# Altium footprint library EC20A1820407.PcbLib: 1 footprints
Each footprint in its own frame and in the unit in brackets; x right, y up, seen from the top. Pads: shape width x height; smd on the part's side, far side on the other; paste and mask are expansions set on the pad; w line width, h text height; cw(c..) or ccw(c..) is an arc to the next point about the centre after c.
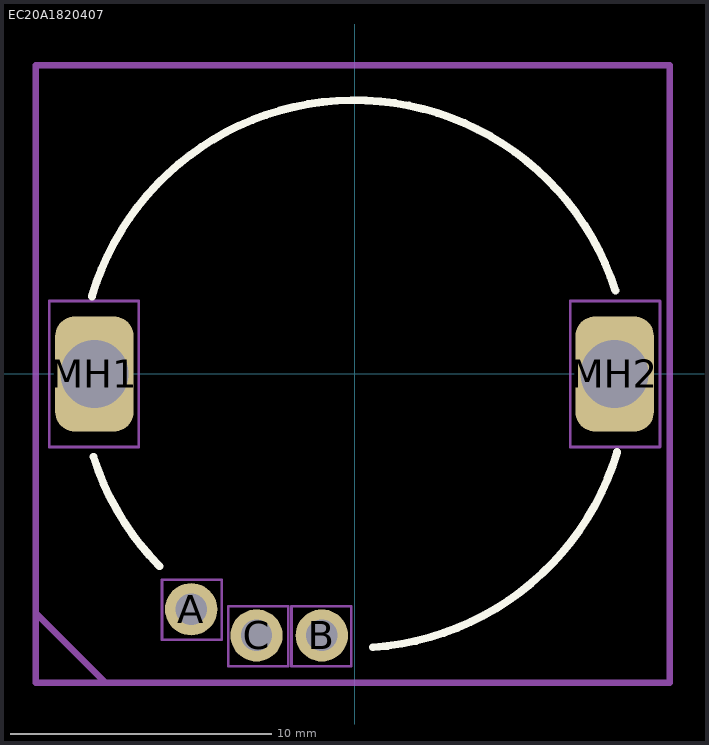
[diagram p0: the footprint, top view; thin cyan lines are the x and y axes]

## EC20A1820407 [mm]
pads (5):
  round 2 hole 1.2: A(-6.25,-9) B(-1.25,-10) C(-3.75,-10)
  rrect50% 3x4.4 hole 2.6 square: MH1(-9.95,0) MH2(9.95,0)
Top Overlay:
  lines w0.3: -10.046,2.966 cw(c0,0) 9.977,3.193 ; -9.986,-3.164 ccw(c0,0) -7.458,-7.356 ; 0.71,-10.451 ccw(c0,0) 10.041,-2.983
Mechanical 3:
  lines w0.25: -12.192,-9.144 -9.525,-11.811 12.065,-11.811 12.065,11.811 -12.192,11.811 -12.192,-9.144
Mechanical 5:
  lines w0.1: -11.684,-2.794 -11.684,2.794 -8.255,2.794 -8.255,-2.794 -11.684,-2.794 ; -7.366,-10.16 -5.08,-10.16 -5.08,-7.874 -7.366,-7.874 -7.366,-10.16 ; -4.826,-11.176 -2.54,-11.176 -2.54,-8.89 -4.826,-8.89 -4.826,-11.176 ; -2.413,-11.176 -0.127,-11.176 -0.127,-8.89 -2.413,-8.89 -2.413,-11.176 ; 8.255,-2.794 8.255,2.794 11.684,2.794 11.684,-2.794 8.255,-2.794
Mechanical 7:
  lines w0.25: -12.192,-11.811 -12.192,11.811 12.065,11.811 12.065,-11.811 -12.192,-11.811
Mechanical 9:
  text "'.Designator'" at -5.944,-0.271 h1.02
3D body: height 0.1, standoff 0, extent -12.192,-11.811 12.065,11.811